# EAGLE library part 7SEGMENT-2DIGIT (library GW-devices)
7-Segment Display 1" Red (COM-08546)
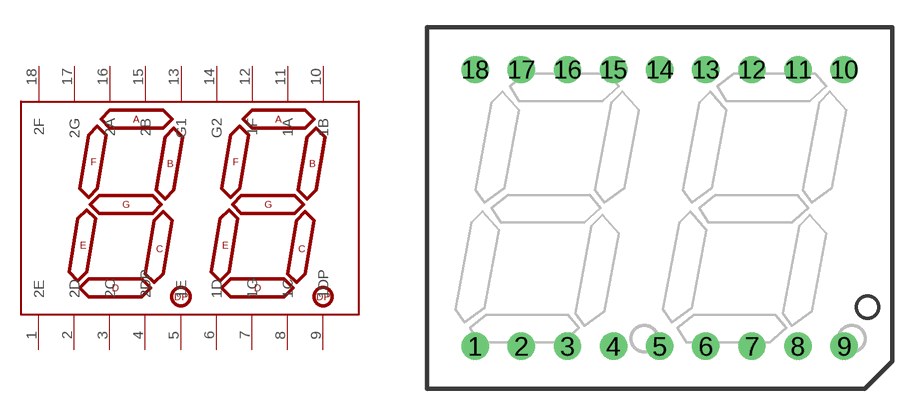
[diagram p34: symbol with the pads of 7SEGMENT-2DIG-.54; footprint 7SEGMENT-2DIG-.54]

Designator prefix -

## 7SEGMENT-2DIGIT  [7SEGMENT-2DIG-.54]
1  2E
2  2D
3  2C
4  2DP
5  1E
6  1D
7  1G
8  1C
9  1DP
10  1B
11  1A
12  1F
13  G1
14  G2
15  2B
16  2A
17  2G
18  2F

## Footprint 7SEGMENT-2DIG-.54 (pad centres in mm)
7 Segment display Storefront SKU#: COM-08546
drill 1: 1 -10.16,-7.62; 2 -7.62,-7.62; 3 -5.08,-7.62; 4 -2.54,-7.62; 5 0,-7.62; 6 2.54,-7.62; 7 5.08,-7.62; 8 7.62,-7.62; 9 10.16,-7.62; 10 10.16,7.62; 11 7.62,7.62; 12 5.08,7.62; 13 2.54,7.62; 14 0,7.62; 15 -2.54,7.62; 16 -5.08,7.62; 17 -7.62,7.62; 18 -10.16,7.62